# Altium integrated library Particle-Devices.IntLib: 13 symbols
Pins are listed as number, name and electrical type; pins without a type are passive.

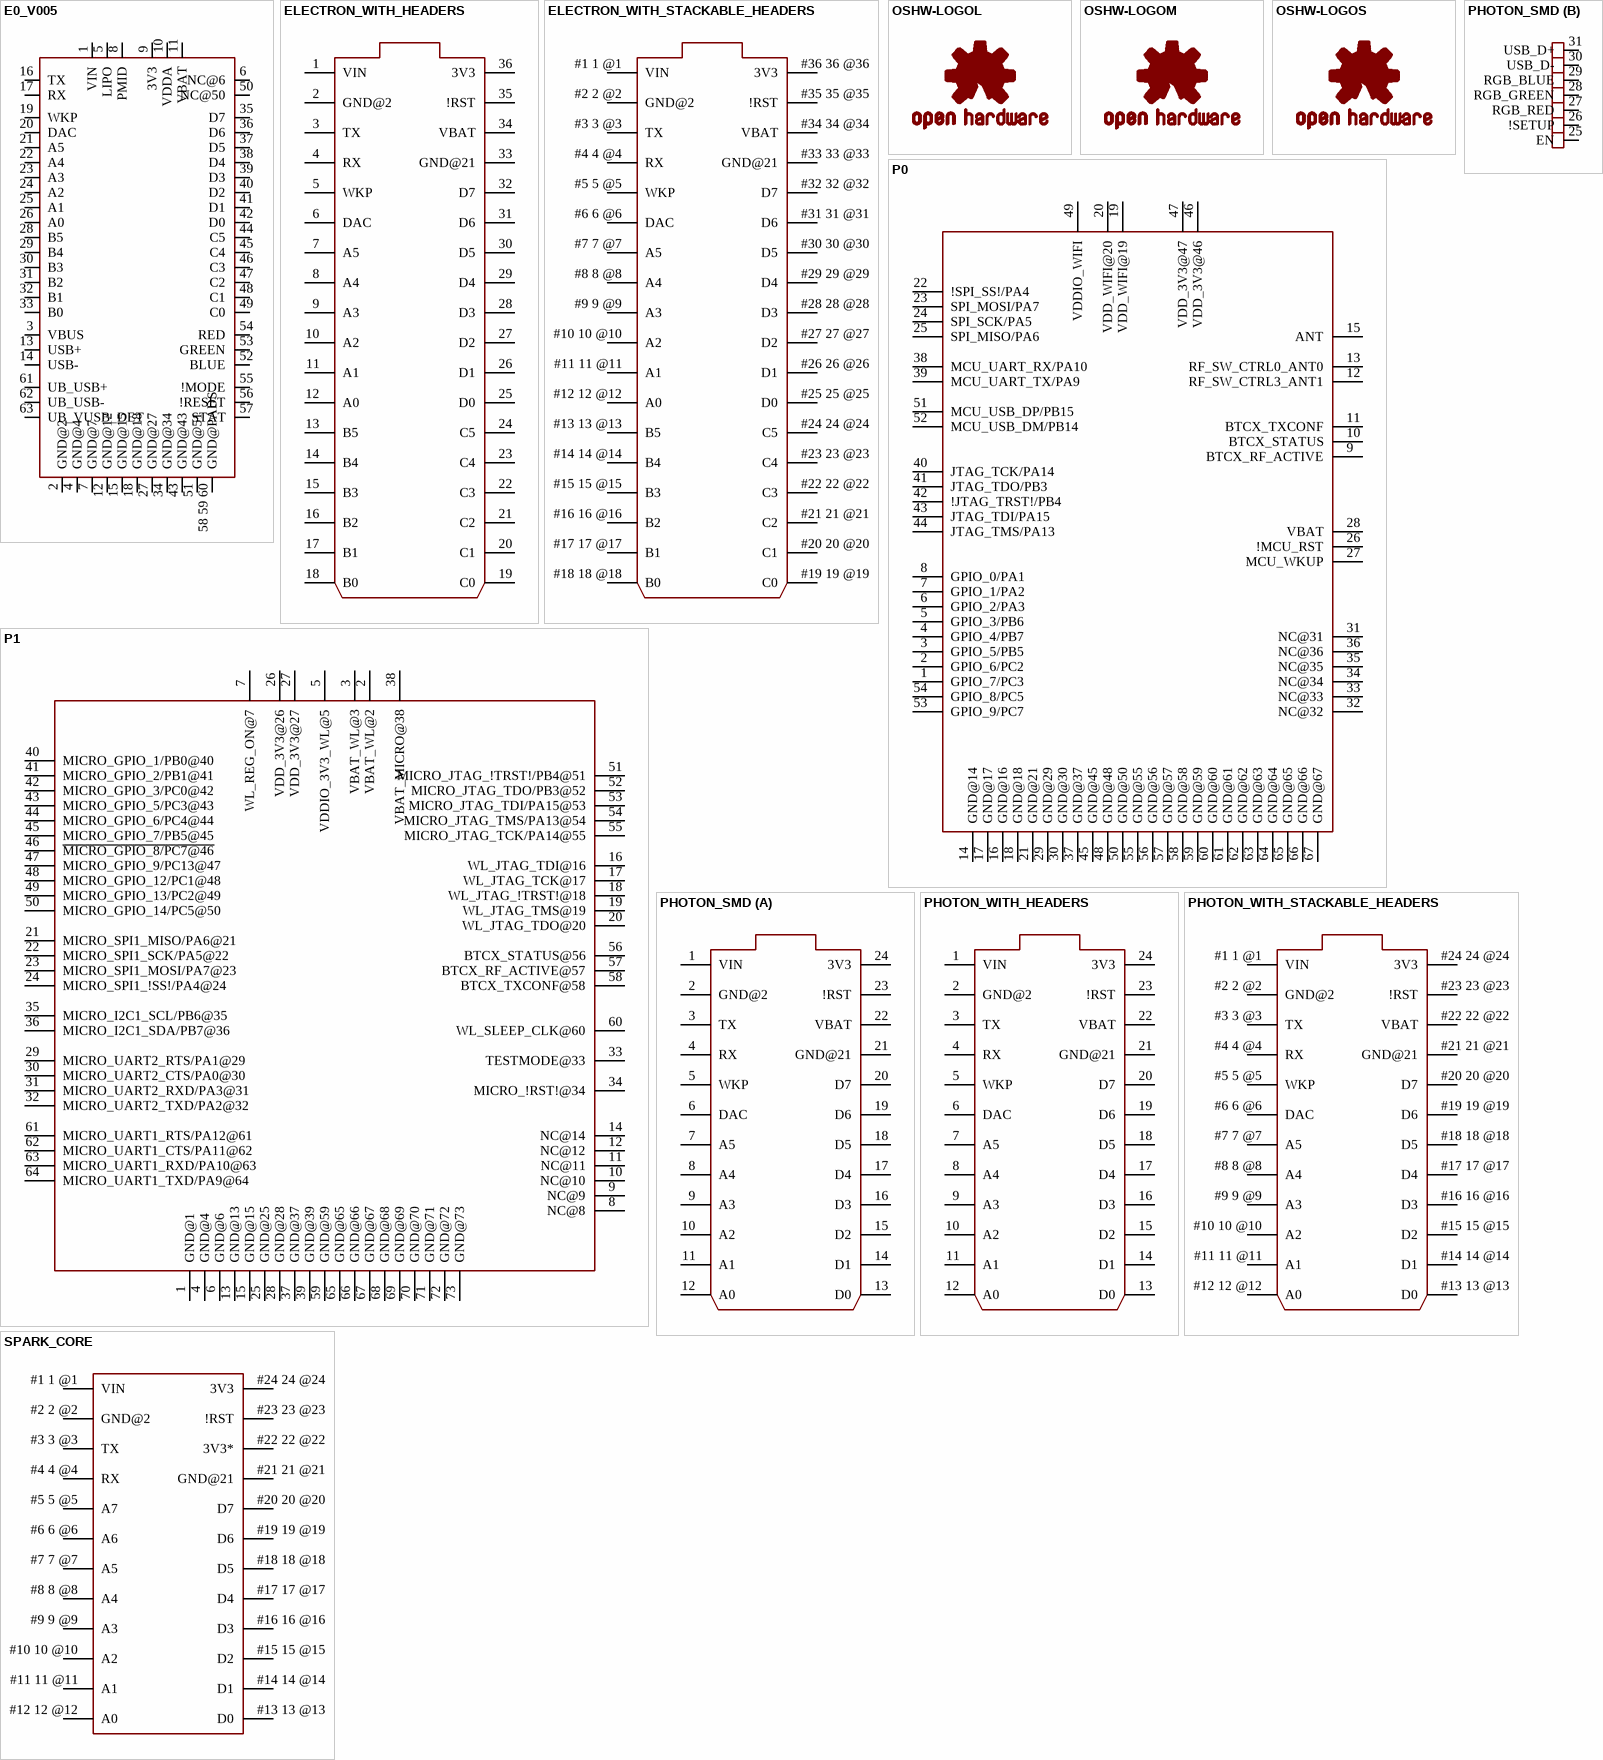
[diagram p0: symbols E0_V005 to SPARK_CORE]

## E0_V005
designator U?, comment Particle E0  (value not drawn)
footprint E0
pins: 1 VIN, 2 GND@2, 3 VBUS, 4 GND@4, 5 LIPO, 6 NC@6, 7 GND@7, 8 PMID, 9 3V3, 10 VDDA, 11 VBAT, 12 GND@12, 13 USB+, 14 USB-, 15 GND@15, 16 TX, 17 RX, 18 GND@18, 19 WKP, 20 DAC, 21 A5, 22 A4, 23 A3, 24 A2, 25 A1, 26 A0, 27 GND@27, 28 B5, 29 B4, 30 B3, 31 B2, 32 B1, 33 B0, 34 GND@34, 35 D7, 36 D6, 37 D5, 38 D4, 39 D3, 40 D2, 41 D1, 42 D0, 43 GND@43, 44 C5, 45 C4, 46 C3, 47 C2, 48 C1, 49 C0, 50 NC@50, 51 GND@51, 52 BLUE, 53 GREEN, 54 RED, 55 !MODE, 56 !RESET, 57 STAT, 58 59 60 GND@PADS, 61 UB_USB+, 62 UB_USB-, 63 UB_VUSB_DET

## ELECTRON_WITH_HEADERS
designator ?, comment Particle Electron footprint  (value not drawn)
footprint ELECTRON
pins: 1 VIN (power), 2 GND@2 (power), 3 TX, 4 RX, 5 WKP, 6 DAC, 7 A5, 8 A4, 9 A3, 10 A2, 11 A1, 12 A0, 13 B5, 14 B4, 15 B3, 16 B2, 17 B1, 18 B0, 19 C0, 20 C1, 21 C2, 22 C3, 23 C4, 24 C5, 25 D0, 26 D1, 27 D2, 28 D3, 29 D4, 30 D5, 31 D6, 32 D7, 33 GND@21 (power), 34 VBAT (power), 35 !RST, 36 3V3 (power)

## ELECTRON_WITH_STACKABLE_HEADERS
designator ?, comment Particle Electron footprint  (value not drawn)
footprint ELECTRON_STACKABLE
pins: #1 1 @1 VIN (power), #2 2 @2 GND@2 (power), #3 3 @3 TX, #4 4 @4 RX, #5 5 @5 WKP, #6 6 @6 DAC, #7 7 @7 A5, #8 8 @8 A4, #9 9 @9 A3, #10 10 @10 A2, #11 11 @11 A1, #12 12 @12 A0, #13 13 @13 B5, #14 14 @14 B4, #15 15 @15 B3, #16 16 @16 B2, #17 17 @17 B1, #18 18 @18 B0, #19 19 @19 C0, #20 20 @20 C1, #21 21 @21 C2, #22 22 @22 C3, #23 23 @23 C4, #24 24 @24 C5, #25 25 @25 D0, #26 26 @26 D1, #27 27 @27 D2, #28 28 @28 D3, #29 29 @29 D4, #30 30 @30 D5, #31 31 @31 D6, #32 32 @32 D7, #33 33 @33 GND@21 (power), #34 34 @34 VBAT (power), #35 35 @35 !RST, #36 36 @36 3V3 (power)

## OSHW-LOGOL
designator LOGO?, comment Open Source Hardware Logo This logo indicates the piece of hardware it is found on incorporates a OSHW license and/or adheres to the definition of open source hardware found here: http://freedomdefined.org/OSHW  (value not drawn)
footprint OSHW-LOGO-L

## OSHW-LOGOM
designator LOGO?, comment Open Source Hardware Logo This logo indicates the piece of hardware it is found on incorporates a OSHW license and/or adheres to the definition of open source hardware found here: http://freedomdefined.org/OSHW  (value not drawn)
footprint OSHW-LOGO-M

## OSHW-LOGOS
designator LOGO?, comment Open Source Hardware Logo This logo indicates the piece of hardware it is found on incorporates a OSHW license and/or adheres to the definition of open source hardware found here: http://freedomdefined.org/OSHW  (value not drawn)
footprint OSHW-LOGO-S

## P0
designator U?, comment Particle P0 module (WiFi without antenna)  (value not drawn)
footprint WM-N-BM-09
pins: 1 GPIO_7/PC3, 2 GPIO_6/PC2, 3 GPIO_5/PB5, 4 GPIO_4/PB7, 5 GPIO_3/PB6, 6 GPIO_2/PA3, 7 GPIO_1/PA2, 8 GPIO_0/PA1, 9 BTCX_RF_ACTIVE, 10 BTCX_STATUS, 11 BTCX_TXCONF, 12 RF_SW_CTRL3_ANT1, 13 RF_SW_CTRL0_ANT0, 14 GND@14, 15 ANT, 16 GND@16, 17 GND@17, 18 GND@18, 19 VDD_WIFI@19, 20 VDD_WIFI@20, 21 GND@21, 22 !SPI_SS!/PA4, 23 SPI_MOSI/PA7, 24 SPI_SCK/PA5, 25 SPI_MISO/PA6, 26 !MCU_RST, 27 MCU_WKUP, 28 VBAT, 29 GND@29, 30 GND@30, 31 NC@31, 32 NC@32, 33 NC@33, 34 NC@34, 35 NC@35, 36 NC@36, 37 GND@37, 38 MCU_UART_RX/PA10, 39 MCU_UART_TX/PA9, 40 JTAG_TCK/PA14, 41 JTAG_TDO/PB3, 42 !JTAG_TRST!/PB4, 43 JTAG_TDI/PA15, 44 JTAG_TMS/PA13, 45 GND@45, 46 VDD_3V3@46, 47 VDD_3V3@47, 48 GND@48, 49 VDDIO_WIFI, 50 GND@50, 51 MCU_USB_DP/PB15, 52 MCU_USB_DM/PB14, 53 GPIO_9/PC7, 54 GPIO_8/PC5, 55 GND@55, 56 GND@56, 57 GND@57, 58 GND@58, 59 GND@59, 60 GND@60, 61 GND@61, 62 GND@62, 63 GND@63, 64 GND@64, 65 GND@65, 66 GND@66, 67 GND@67

## P1
designator ?, comment Particle P1 module (WiFi with antenna)  (value not drawn)
footprint WM-N-BM-14
pins: 1 GND@1, 2 VBAT_WL@2, 3 VBAT_WL@3, 4 GND@4, 5 VDDIO_3V3_WL@5, 6 GND@6, 7 WL_REG_ON@7, 8 NC@8, 9 NC@9, 10 NC@10, 11 NC@11, 12 NC@12, 13 GND@13, 14 NC@14, 15 GND@15, 16 WL_JTAG_TDI@16, 17 WL_JTAG_TCK@17, 18 WL_JTAG_!TRST!@18, 19 WL_JTAG_TMS@19, 20 WL_JTAG_TDO@20, 21 MICRO_SPI1_MISO/PA6@21, 22 MICRO_SPI1_SCK/PA5@22, 23 MICRO_SPI1_MOSI/PA7@23, 24 MICRO_SPI1_!SS!/PA4@24, 25 GND@25, 26 VDD_3V3@26, 27 VDD_3V3@27, 28 GND@28, 29 MICRO_UART2_RTS/PA1@29, 30 MICRO_UART2_CTS/PA0@30, 31 MICRO_UART2_RXD/PA3@31, 32 MICRO_UART2_TXD/PA2@32, 33 TESTMODE@33, 34 MICRO_!RST!@34, 35 MICRO_I2C1_SCL/PB6@35, 36 MICRO_I2C1_SDA/PB7@36, 37 GND@37, 38 VBAT_MICRO@38, 39 GND@39, 40 MICRO_GPIO_1/PB0@40, 41 MICRO_GPIO_2/PB1@41, 42 MICRO_GPIO_3/PC0@42, 43 MICRO_GPIO_5/PC3@43, 44 MICRO_GPIO_6/PC4@44, 45 MICRO_GPIO_7/PB5@45, 46 ~{MICRO_GPIO_8/PC7@46}, 47 MICRO_GPIO_9/PC13@47, 48 MICRO_GPIO_12/PC1@48, 49 MICRO_GPIO_13/PC2@49, 50 MICRO_GPIO_14/PC5@50, 51 MICRO_JTAG_!TRST!/PB4@51, 52 MICRO_JTAG_TDO/PB3@52, 53 MICRO_JTAG_TDI/PA15@53, 54 MICRO_JTAG_TMS/PA13@54, 55 MICRO_JTAG_TCK/PA14@55, 56 BTCX_STATUS@56, 57 BTCX_RF_ACTIVE@57, 58 BTCX_TXCONF@58, 59 GND@59, 60 WL_SLEEP_CLK@60, 61 MICRO_UART1_RTS/PA12@61, 62 MICRO_UART1_CTS/PA11@62, 63 MICRO_UART1_RXD/PA10@63, 64 MICRO_UART1_TXD/PA9@64, 65 GND@65, 66 GND@66, 67 GND@67, 68 GND@68, 69 GND@69, 70 GND@70, 71 GND@71, 72 GND@72, 73 GND@73

## PHOTON_SMD
designator ?, comment Particle Photon (without headers) WiFi development board footprint - designed to be surface mounted with 7 extra exposed pads on the bottom of the board which include, 3 RGB LED outputs, /SETUP, EN (3.3V SMPS enable input), USB D+ and USB D-.  (value not drawn)
footprint PHOTON_SMD
part A pins: 1 VIN (power), 2 GND@2 (power), 3 TX, 4 RX, 5 WKP, 6 DAC, 7 A5, 8 A4, 9 A3, 10 A2, 11 A1, 12 A0, 13 D0, 14 D1, 15 D2, 16 D3, 17 D4, 18 D5, 19 D6, 20 D7, 21 GND@21 (power), 22 VBAT (power), 23 !RST, 24 3V3 (power)
part B pins: 25 EN, 26 !SETUP, 27 RGB_RED, 28 RGB_GREEN, 29 RGB_BLUE, 30 USB_D-, 31 USB_D+

## PHOTON_WITH_HEADERS
designator ?, comment Particle Photon Wi-Fi through-hole development board footprint  (value not drawn)
footprint PHOTON
pins: 1 VIN (power), 2 GND@2 (power), 3 TX, 4 RX, 5 WKP, 6 DAC, 7 A5, 8 A4, 9 A3, 10 A2, 11 A1, 12 A0, 13 D0, 14 D1, 15 D2, 16 D3, 17 D4, 18 D5, 19 D6, 20 D7, 21 GND@21 (power), 22 VBAT (power), 23 !RST, 24 3V3 (power)

## PHOTON_WITH_STACKABLE_HEADERS
designator ?, comment Particle Photon Wi-Fi through-hole development board footprint  (value not drawn)
footprint PHOTON_STACKABLE
pins: #1 1 @1 VIN (power), #2 2 @2 GND@2 (power), #3 3 @3 TX, #4 4 @4 RX, #5 5 @5 WKP, #6 6 @6 DAC, #7 7 @7 A5, #8 8 @8 A4, #9 9 @9 A3, #10 10 @10 A2, #11 11 @11 A1, #12 12 @12 A0, #13 13 @13 D0, #14 14 @14 D1, #15 15 @15 D2, #16 16 @16 D3, #17 17 @17 D4, #18 18 @18 D5, #19 19 @19 D6, #20 20 @20 D7, #21 21 @21 GND@21 (power), #22 22 @22 VBAT (power), #23 23 @23 !RST, #24 24 @24 3V3 (power)

## SPARK_CORE
designator ?, comment Particle/Spark Core WiFi development board footprint  (value not drawn)
footprint SPARK_CORE_STACKABLE
pins: #1 1 @1 VIN (power), #2 2 @2 GND@2 (power), #3 3 @3 TX, #4 4 @4 RX, #5 5 @5 A7, #6 6 @6 A6, #7 7 @7 A5, #8 8 @8 A4, #9 9 @9 A3, #10 10 @10 A2, #11 11 @11 A1, #12 12 @12 A0, #13 13 @13 D0, #14 14 @14 D1, #15 15 @15 D2, #16 16 @16 D3, #17 17 @17 D4, #18 18 @18 D5, #19 19 @19 D6, #20 20 @20 D7, #21 21 @21 GND@21 (power), #22 22 @22 3V3* (power), #23 23 @23 !RST, #24 24 @24 3V3 (power)

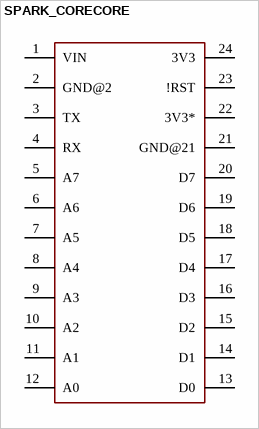
[diagram p1: symbol SPARK_CORECORE]

## SPARK_CORECORE
designator ?, comment Particle/Spark Core WiFi development board footprint  (value not drawn)
footprint SPARK_CORE
pins: 1 VIN (power), 2 GND@2 (power), 3 TX, 4 RX, 5 A7, 6 A6, 7 A5, 8 A4, 9 A3, 10 A2, 11 A1, 12 A0, 13 D0, 14 D1, 15 D2, 16 D3, 17 D4, 18 D5, 19 D6, 20 D7, 21 GND@21 (power), 22 3V3* (power), 23 !RST, 24 3V3 (power)